# EAGLE library part ESB*-40 (library ABB)
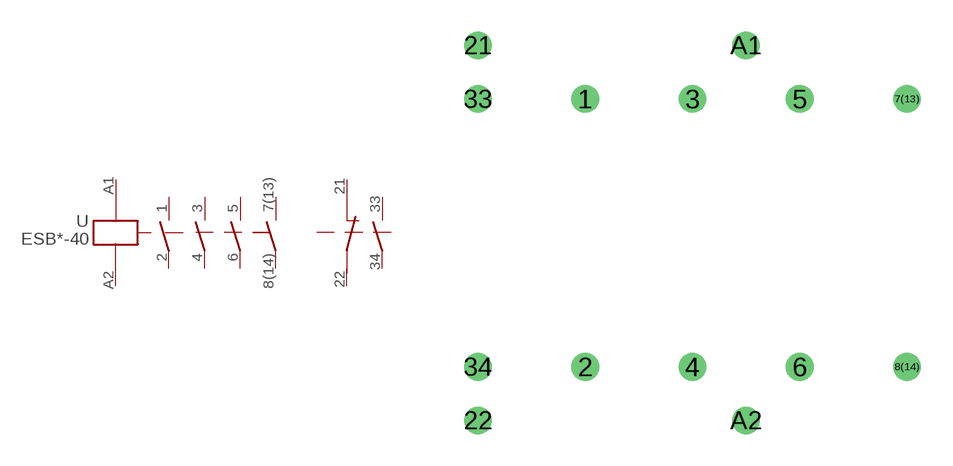
[diagram p0: symbol with the pads of ESB_40/63; footprint ESB_40/63]

Designator prefix -; gates G$1=ESB*-40 G$2=EH04-11

## ESB-40  [ESB_40/63]
1  G$1:1  pas
2  G$1:2  pas
3  G$1:3  pas
4  G$1:4  pas
5  G$1:5  pas
6  G$1:6  pas
7(13)  G$1:7(13)  pas
8(14)  G$1:8(14)  pas
21  G$2:21  pas
22  G$2:22  pas
33  G$2:33  pas
34  G$2:34  pas
A1  G$1:A1  in
A2  G$1:A2  in

## Footprint ESB_40/63 (pad centres in mm)
drill 0.8: 1 2.54,17.78; 2 2.54,5.08; 3 7.62,17.78; 4 7.62,5.08; 5 12.7,17.78; 6 12.7,5.08; 7(13) 17.78,17.78; 8(14) 17.78,5.08; 21 -2.54,20.32; 22 -2.54,2.54; 33 -2.54,17.78; 34 -2.54,5.08; A1 10.16,20.32; A2 10.16,2.54